# Altium schematic symbol library EE119_Parts.SchLib: 2 symbols
Pins are listed as number, name and electrical type; pins without a type are passive.

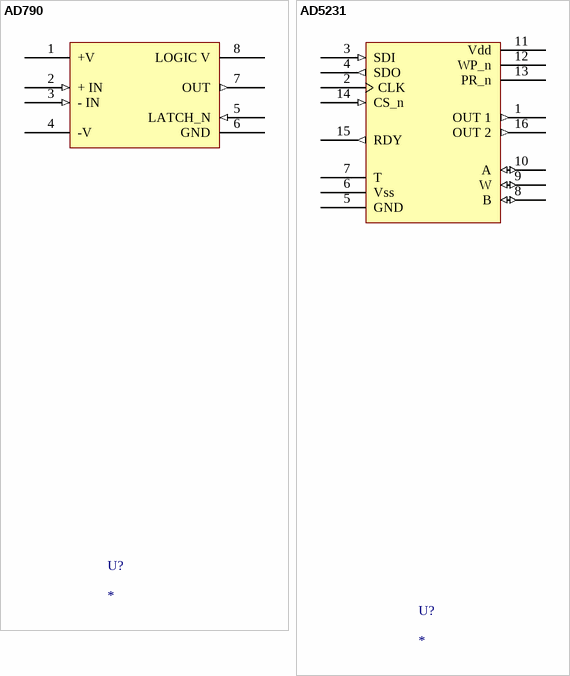
[diagram p0: symbols AD790 to AD5231]

## AD790
designator U?
pins: 1 +V (power), 2 + IN (in), 3 - IN (in), 4 -V (power), 5 LATCH_N (in), 6 GND (power), 7 OUT (out), 8 LOGIC V (power)
2 alternate drawings of the same symbol

## AD5231
designator U?
pins: 1 OUT 1 (out), 2 CLK, 3 SDI (in), 4 SDO (out), 5 GND, 6 Vss, 7 T, 8 B (io), 9 W (io), 10 A (io), 11 Vdd, 12 WP_n, 13 PR_n, 14 CS_n (in), 15 RDY (out), 16 OUT 2 (out)